# EAGLE library part CLP6C (library mibe)
CLP6C-xxx
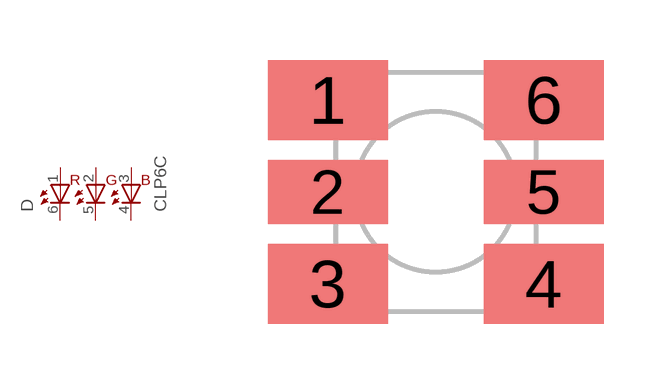
[diagram p6: symbol with the pads of PLCC-6; footprint PLCC-6]

Designator prefix D

## CLP6C-FKB  [PLCC-6]
1  1  pas
2  2  pas
3  3  pas
4  4  pas
5  5  pas
6  6  pas

## Footprint PLCC-6 (pad centres in mm)
smd 3 x 2: 1 -2.7,2.3; 3 -2.7,-2.3; 4 2.7,-2.3; 6 2.7,2.3
smd 3 x 1.6: 2 -2.7,0; 5 2.7,0